# Altium footprint library max30102_40k.PcbLib: 1 footprints
Each footprint in its own frame and in the unit in brackets; x right, y up, seen from the top. Pads: shape width x height; smd on the part's side, far side on the other; paste and mask are expansions set on the pad; w line width, h text height; cw(c..) or ccw(c..) is an arc to the next point about the centre after c.
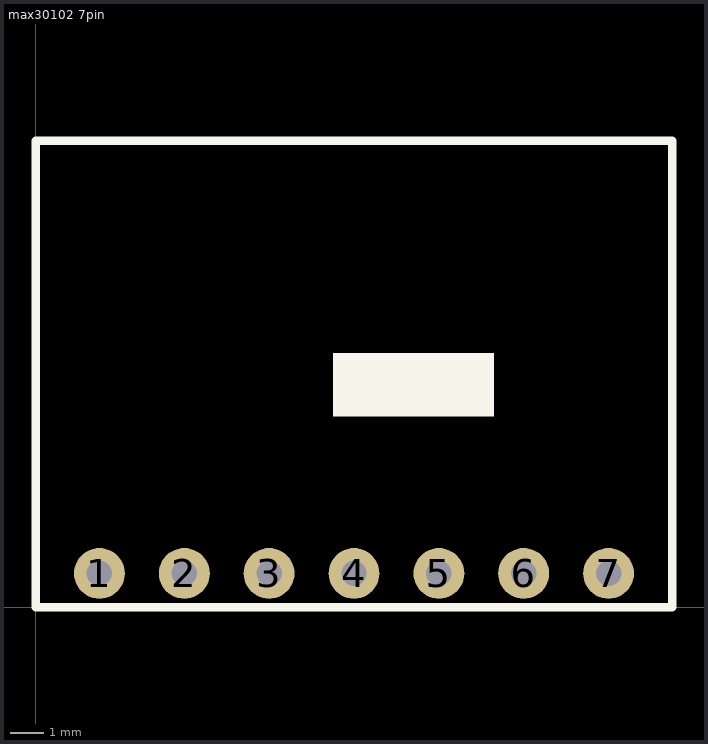
[diagram p0: the footprint, top view; thin cyan lines are the x and y axes]

## max30102 7pin [mil]
pads (7):
  round 60 hole 30: 1(75,40) 2(175,40) 3(275,40) 4(375,40) 5(475,40) 6(575,40) 7(675,40)
Top Overlay:
  rectangle: 350,225 540,300
  lines w10: 0,0 750,0 750,550 0,550 0,0
3D body "221002_risym_max30102?????.SLDPRT": height 129.92, standoff 0, extent 16.65,-1.5 745,561.5